# Altium footprint library ME3616EVK01.PcbLib: 22 footprints (part 1 of 2)
Each footprint in its own frame and in the unit in brackets; x right, y up, seen from the top. Pads: shape width x height; smd on the part's side, far side on the other; paste and mask are expansions set on the pad; w line width, h text height; cw(c..) or ccw(c..) is an arc to the next point about the centre after c.
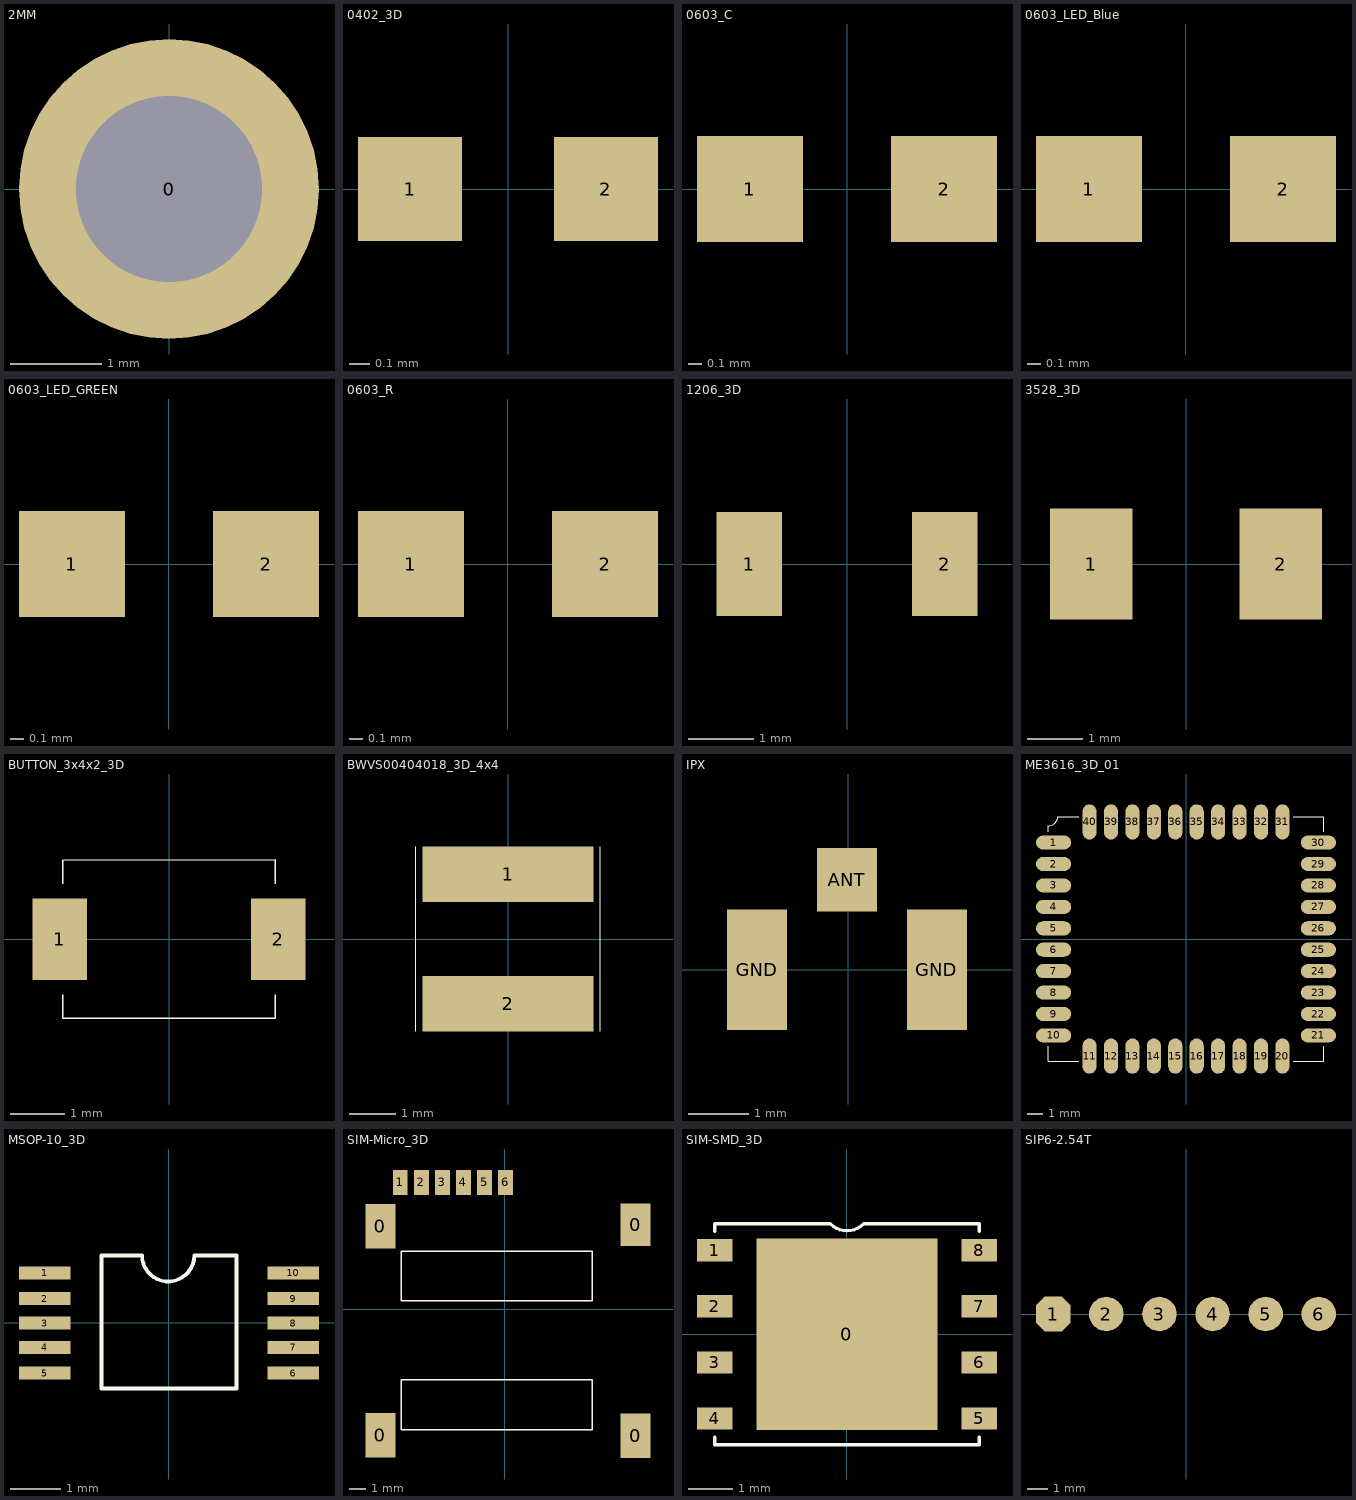
[diagram p0: the footprints below, top view; thin cyan lines are the x and y axes]

## 2MM [mm]
pads (1):
  round 3.3 hole 2.05: 0(0,0)

## 0402_3D [mm]
pads (2):
  rect 0.5x0.5 smd: 1(-0.47,0) 2(0.47,0)

## 0603_C [mil]
pads (2):
  rect 30x30 smd: 1(-27.5,0) 2(27.5,0)

## 0603_LED_Blue [mil]
pads (2):
  rect 30x30 smd: 1(-27.49,0.01) 2(27.51,0.01)

## 0603_LED_GREEN [mil]
pads (2):
  rect 30x30 smd: 1(-27.49,0.01) 2(27.51,0.01)

## 0603_R [mil]
pads (2):
  rect 30x30 smd: 1(-27.49,0.01) 2(27.51,0.01)

## 1206_3D [mm]
pads (2):
  rect 1x1.6 smd: 1(-1.5,0) 2(1.5,0)

## 3528_3D [mm]
pads (2):
  rect 1.5x2 smd: 1(-1.714,0) 2(1.714,0)

## BUTTON_3x4x2_3D [mm]
pads (2):
  rect 1x1.5 smd: 1(-2,0) 2(2,0)
Top Overlay:
  lines w0.025: -1.95,-1.016 -1.95,-1.45 1.95,-1.45 1.95,-1.016 ; -1.95,1.016 -1.95,1.45 1.95,1.456 1.95,1.016

## BWVS00404018_3D_4x4 [mm]
pads (2):
  rect 3.7x1.2 smd: 1(0,1.4) 2(0,-1.4)
Top Overlay:
  lines w0.025: -2,-2 -2,2 ; 2,-2 2,2

## IPX [mm]
pads (3):
  rect 1x1.05 smd: ANT(-0.024,1.5)
  rect 1x2 smd: GND(-1.524,0) GND(1.476,0)

## ME3616_3D_01 [mm]
pads (40):
  oval 2.3x0.92 smd: 1(-8.65,6.3) 2(-8.65,4.9) 3(-8.65,3.5) 4(-8.65,2.1) 5(-8.65,0.7) 6(-8.65,-0.7) 7(-8.65,-2.1) 8(-8.65,-3.5) 9(-8.65,-4.9) 10(-8.65,-6.3) 21(8.65,-6.3) 22(8.65,-4.9) 23(8.65,-3.5) 24(8.65,-2.1) 25(8.65,-0.7) 26(8.65,0.7) 27(8.65,2.1) 28(8.65,3.5) 29(8.65,4.9) 30(8.65,6.3)
  oval 0.92x2.3 smd: 11(-6.3,-7.65) 12(-4.9,-7.65) 13(-3.5,-7.65) 14(-2.1,-7.65) 15(-0.7,-7.65) 16(0.7,-7.65) 17(2.1,-7.65) 18(3.5,-7.65) 19(4.9,-7.65) 20(6.3,-7.65) 31(6.3,7.65) 32(4.9,7.65) 33(3.5,7.65) 34(2.1,7.65) 35(0.7,7.65) 36(-0.7,7.65) 37(-2.1,7.65) 38(-3.5,7.65) 39(-4.9,7.65) 40(-6.3,7.65)
Top Overlay:
  lines w0.076: -9,-7 -9,-8.001 cw(c-8.998,-8.003) -8.998,-8 -7,-8 ; -9,7 -9,7.383 ccw(c-9,8.001) -8.382,8 -7,8 ; 7,-8.001 9,-8.001 9,-7 ; 7,8 9,8 9,7

## MSOP-10_3D [mil]
pads (10):
  rect 40x10 smd: 1(-96.58,38.97) 2(-96.58,18.97) 3(-96.58,-0.03) 4(-96.58,-19.03) 5(-96.42,-38.97) 6(96.58,-38.97) 7(96.42,-19.03) 8(96.42,-0.03) 9(96.42,18.97) 10(96.42,38.97)
Top Overlay:
  lines w3: -52.58,-51.03 52.42,-51.03 52.42,52.57 19.67,52.57 cw(c-0.67,52.57) -21.01,52.57 -52.58,52.57 -52.58,-51.03

## SIM-Micro_3D [mm]
pads (10):
  rect 1.8x2.7 smd: 0(-7.5,-7.6) 0(-7.5,5) 0(7.874,-7.62)
  rect 1.8x2.55 smd: 0(7.874,5.08)
  rect 0.9x1.5 smd: 1(-6.305,7.64) 2(-5.035,7.64) 3(-3.765,7.64) 4(-2.495,7.64) 5(-1.225,7.64) 6(0.045,7.64)
Top Overlay:
  lines w0.076: -6.25,-7.25 -6.25,-4.25 5.25,-4.25 5.25,-7.25 -6.25,-7.25 ; -6.25,0.5 5.25,0.5 5.25,3.5 -6.25,3.5 -6.25,0.5

## SIM-SMD_3D [mm]
pads (9):
  rect 4.1x4.35 smd: 0(0,0)
  rect 0.8x0.5 smd: 1(-3,1.905) 2(-3,0.635) 3(-3,-0.635) 4(-3,-1.905) 5(3,-1.905) 6(3,-0.635) 7(3,0.635) 8(3,1.905)
Top Overlay:
  lines w0.076: -3,-2.337 -3,-2.505 3,-2.505 3,-2.337 ; -3,2.337 -3,2.505 ; -0.762,2.505 -3,2.505 ; 0.762,2.505 3,2.505 ; 3,2.337 3,2.505 ; -3,2.505 -0.381,2.505 ccw(c0,2.886) 0.381,2.505 3,2.505

## SIP6-2.54T [mil]
pads (6):
  oct 65x65 smd: 1(-250,0)
  round 65 smd: 2(-150,0) 3(-50,0) 4(50,0) 5(150,0) 6(250,0)